# EAGLE library part RADIO-301A-CONECT (library aoba)
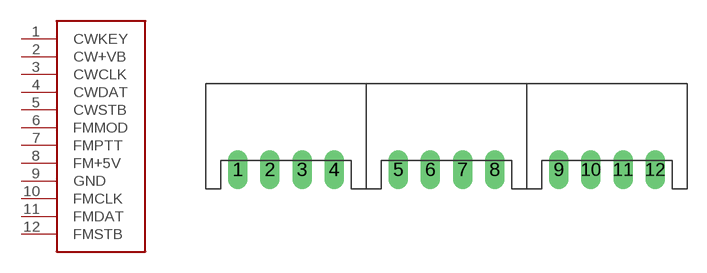
[diagram p10: symbol with the pads of RADIO-301A-CONECT; footprint RADIO-301A-CONECT]

Designator prefix -

## RADIO-301A-CONECT  [RADIO-301A-CONECT]
1  CWKEY
2  CW+VB  pwr
3  CWCLK
4  CWDAT
5  CWSTB
6  FMMOD
7  FMPTT
8  FM+5V  pwr
9  GND  pwr
10  FMCLK
11  FMDAT
12  FMSTB

## Footprint RADIO-301A-CONECT (pad centres in mm)
drill 1.016 long: 1 -16.25,-0.04; 2 -13.75,-0.04; 3 -11.25,-0.04; 4 -8.75,-0.04; 5 -3.75,-0.04; 6 -1.25,-0.04; 7 1.25,-0.04; 8 3.75,-0.04; 9 8.75,-0.04; 10 11.25,-0.04; 11 13.75,-0.04; 12 16.25,-0.04